# Altium integrated library NSC MiscPower.IntLib: 742 symbols (part 17 of 19)
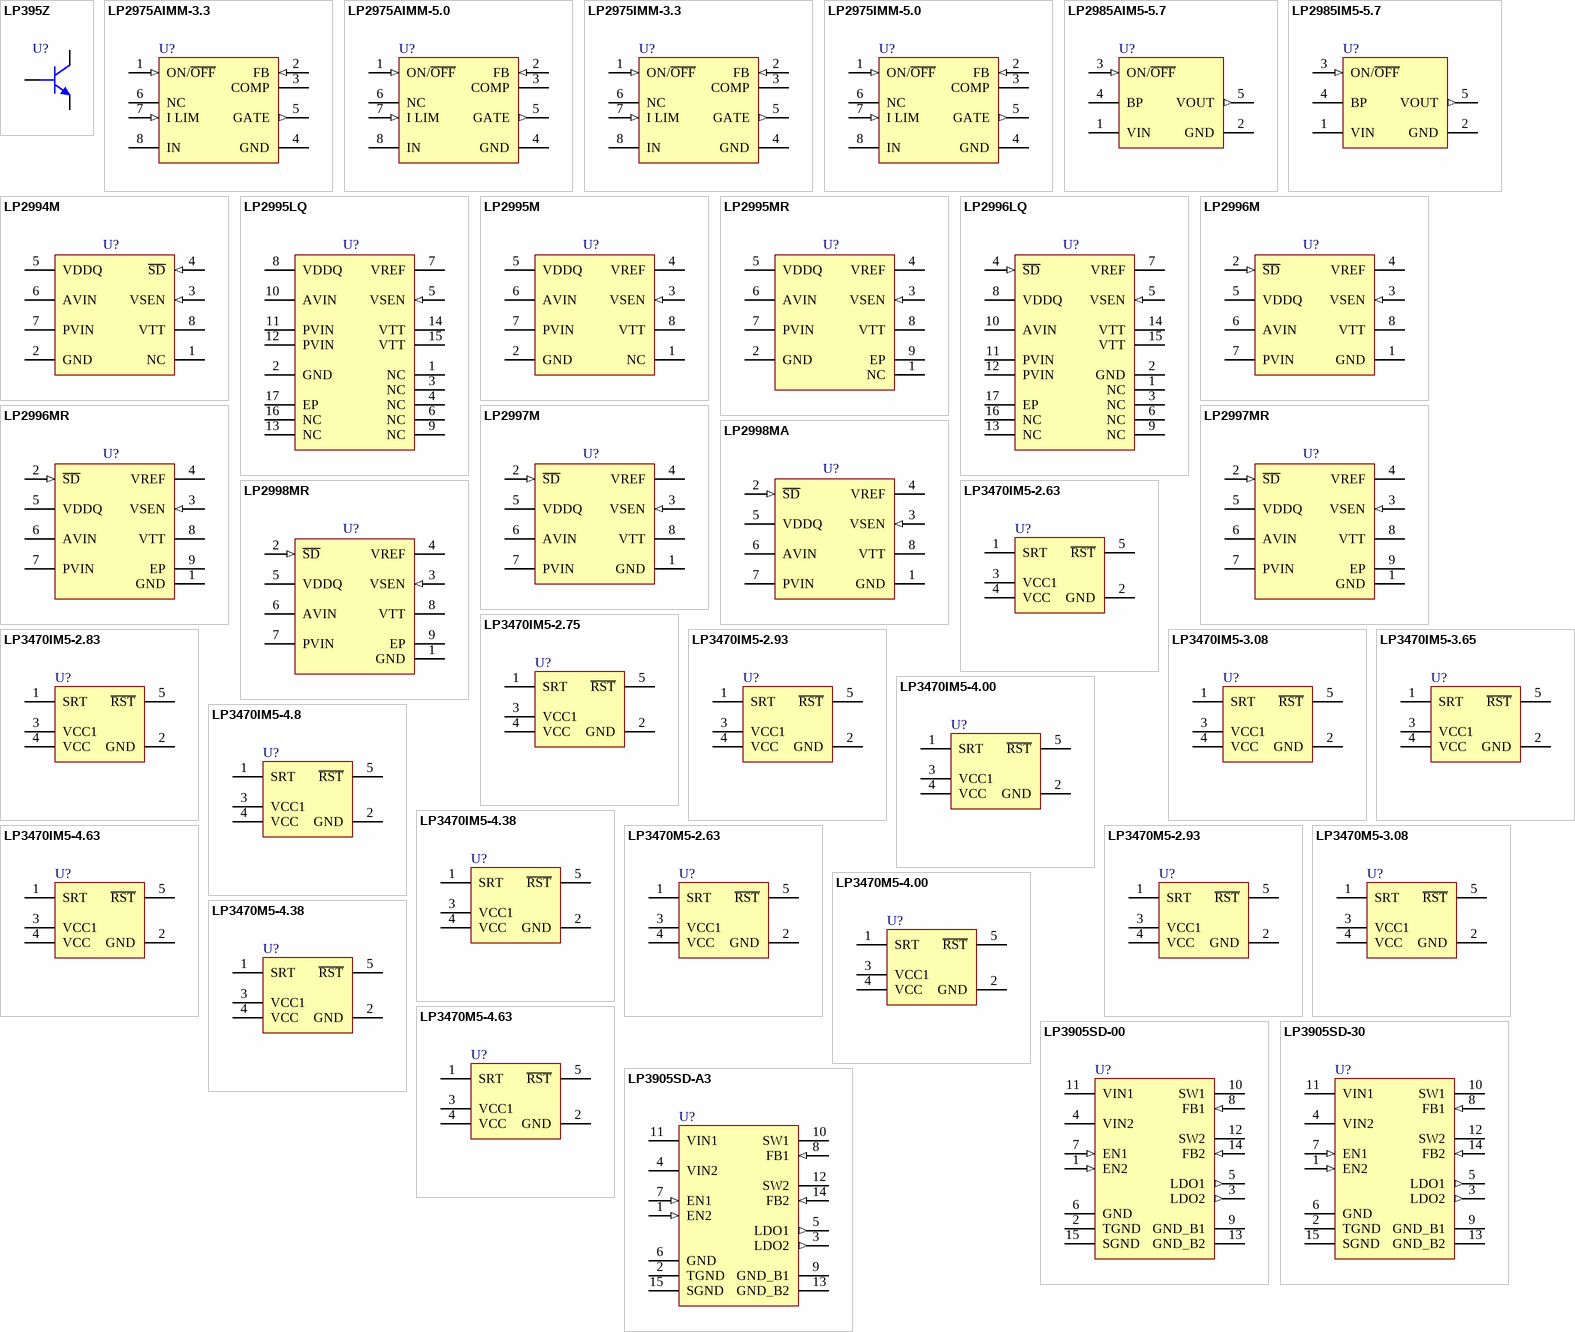
[diagram p41: symbols LP395Z to LP3905SD-A3]

## LP2996MR
designator U?
DDR Termination Regulator; PartNumber: LP2996MR; Manufacturer: National Semiconductor; CompType: MiscPower; PackageTopMarking: NSXYTT*LP2996; PowerWise: N; Published: 4-Dec-2008; DatasheetVersion: Jun-2006; PackageVersion: revD, Dec-2007; PackageReference: MRA08A; Publisher: Altium Limited; PackageDescription: Molded, PSOP .193 x .154 x .058in, 8 Lead, .050in Pitch; RoHS: O; PinCount: 8; DigiKeyPartNumber: LP2996MR-ND; Code_JEDEC: MS-012-AA; ComponentLink1Description: LP2996 Datasheet; ComponentLink1URL: http://www.national.com/ds/LP/LP2996.pdf; ComponentLink2Description: LP2996 Web Page; ComponentLink2URL: http://www.national.com/pf/LP/LP2996.html; ComponentLink3Description: MRA08A Package Page; ComponentLink3URL: http://www.national.com/packaging/folders/mra08a.html
footprint MRA08A_N (SOIC, 8-Leads, Body 4.9x3.9mm, Pitch 1.27mm, Exposed Pad, IPC Medium Density)
footprint MRA08A_L (SOIC, 8-Leads, Body 4.9x3.9mm, Pitch 1.27mm, Exposed Pad, IPC High Density)
footprint MRA08A_M (SOIC, 8-Leads, Body 4.9x3.9mm, Pitch 1.27mm, Exposed Pad, IPC Low Density)
pins: 1 GND (power), 2 ~{SD} (in), 3 VSEN (in), 4 VREF, 5 VDDQ (power), 6 AVIN (power), 7 PVIN (power), 8 VTT (power), 9 EP (power)

## LP2997M
designator U?
DDR-II Termination Regulator; PartNumber: LP2997M; Manufacturer: National Semiconductor; CompType: MiscPower; PackageTopMarking: NSZXTT*L2997*M; PowerWise: N; Published: 4-Dec-2008; DatasheetVersion: Jun-2006; PackageVersion: revL, Sep-2006; PackageReference: M08A; Publisher: Altium Limited; PackageDescription: SOIC Narrow, 4.9 x 3.9 x 1.45mm, 8 Lead, 1.27mm Pitch; RoHS: Y; PinCount: 8; DigiKeyPartNumber: LP2997M-ND; Code_JEDEC: MS-012-AA; Code_IPC: SOIC127P600-8; ComponentLink1Description: LP2997 Datasheet; ComponentLink1URL: http://www.national.com/ds/LP/LP2997.pdf; ComponentLink2Description: LP2997 Web Page; ComponentLink2URL: http://www.national.com/pf/LP/LP2997.html; ComponentLink3Description: M08A Package Page; ComponentLink3URL: http://www.national.com/packaging/folders/m08a.html
footprint M08A_N (SOIC, 8-Leads, Body 4.9x3.9mm, Pitch 1.27mm, IPC Medium Density)
footprint M08A_L (SOIC, 8-Leads, Body 4.9x3.9mm, Pitch 1.27mm, IPC High Density)
footprint M08A_M (SOIC, 8-Leads, Body 4.9x3.9mm, Pitch 1.27mm, IPC Low Density)
pins: 1 GND (power), 2 ~{SD} (in), 3 VSEN (in), 4 VREF, 5 VDDQ (power), 6 AVIN (power), 7 PVIN (power), 8 VTT (power)

## LP2997MR
designator U?
DDR-II Termination Regulator; PartNumber: LP2997MR; Manufacturer: National Semiconductor; CompType: MiscPower; PackageTopMarking: NSXYTT*L2997*MR; PowerWise: N; Published: 4-Dec-2008; DatasheetVersion: Jun-2006; PackageVersion: revD, Dec-2007; PackageReference: MRA08A; Publisher: Altium Limited; PackageDescription: Molded, PSOP .193 x .154 x .058in, 8 Lead, .050in Pitch; RoHS: Y; PinCount: 8; DigiKeyPartNumber: LP2997MR-ND; Code_JEDEC: MS-012-AA; ComponentLink1Description: LP2997 Datasheet; ComponentLink1URL: http://www.national.com/ds/LP/LP2997.pdf; ComponentLink2Description: LP2997 Web Page; ComponentLink2URL: http://www.national.com/pf/LP/LP2997.html; ComponentLink3Description: MRA08A Package Page; ComponentLink3URL: http://www.national.com/packaging/folders/mra08a.html
footprint MRA08A_N (SOIC, 8-Leads, Body 4.9x3.9mm, Pitch 1.27mm, Exposed Pad, IPC Medium Density)
footprint MRA08A_L (SOIC, 8-Leads, Body 4.9x3.9mm, Pitch 1.27mm, Exposed Pad, IPC High Density)
footprint MRA08A_M (SOIC, 8-Leads, Body 4.9x3.9mm, Pitch 1.27mm, Exposed Pad, IPC Low Density)
pins: 1 GND (power), 2 ~{SD} (in), 3 VSEN (in), 4 VREF, 5 VDDQ (power), 6 AVIN (power), 7 PVIN (power), 8 VTT (power), 9 EP (power)

## LP2998MA
designator U?
DDR-II and DDR-I Termination Regulator; PartNumber: LP2998MA; Manufacturer: National Semiconductor; CompType: MiscPower; PackageTopMarking: NSZXTT*LP2998*MA; PowerWise: N; Published: 4-Dec-2008; DatasheetVersion: Apr-2008; PackageVersion: revL, Sep-2006; PackageReference: M08A; Publisher: Altium Limited; PackageDescription: SOIC Narrow, 4.9 x 3.9 x 1.45mm, 8 Lead, 1.27mm Pitch; RoHS: Y; PinCount: 8; DigiKeyPartNumber: LP2998MA-ND; Code_JEDEC: MS-012-AA; Code_IPC: SOIC127P600-8; ComponentLink1Description: LP2998 Datasheet; ComponentLink1URL: http://www.national.com/ds/LP/LP2998.pdf; ComponentLink2Description: LP2998 Web Page; ComponentLink2URL: http://www.national.com/pf/LP/LP2998.html; ComponentLink3Description: M08A Package Page; ComponentLink3URL: http://www.national.com/packaging/folders/m08a.html
footprint M08A_N (SOIC, 8-Leads, Body 4.9x3.9mm, Pitch 1.27mm, IPC Medium Density)
footprint M08A_L (SOIC, 8-Leads, Body 4.9x3.9mm, Pitch 1.27mm, IPC High Density)
footprint M08A_M (SOIC, 8-Leads, Body 4.9x3.9mm, Pitch 1.27mm, IPC Low Density)
pins: 1 GND (power), 2 ~{SD} (in), 3 VSEN (in), 4 VREF, 5 VDDQ (power), 6 AVIN (power), 7 PVIN (power), 8 VTT (power)

## LP2998MR
designator U?
DDR-II and DDR-I Termination Regulator; PartNumber: LP2998MR; Manufacturer: National Semiconductor; CompType: MiscPower; PackageTopMarking: NSXYTT*LP2998*MR; PowerWise: N; Published: 4-Dec-2008; DatasheetVersion: Apr-2008; PackageVersion: revD, Dec-2007; PackageReference: MRA08A; Publisher: Altium Limited; PackageDescription: Molded, PSOP .193 x .154 x .058in, 8 Lead, .050in Pitch; RoHS: Y; PinCount: 8; DigiKeyPartNumber: LP2998MR-ND; Code_JEDEC: MS-012-AA; ComponentLink1Description: LP2998 Datasheet; ComponentLink1URL: http://www.national.com/ds/LP/LP2998.pdf; ComponentLink2Description: LP2998 Web Page; ComponentLink2URL: http://www.national.com/pf/LP/LP2998.html; ComponentLink3Description: MRA08A Package Page; ComponentLink3URL: http://www.national.com/packaging/folders/mra08a.html
footprint MRA08A_N (SOIC, 8-Leads, Body 4.9x3.9mm, Pitch 1.27mm, Exposed Pad, IPC Medium Density)
footprint MRA08A_L (SOIC, 8-Leads, Body 4.9x3.9mm, Pitch 1.27mm, Exposed Pad, IPC High Density)
footprint MRA08A_M (SOIC, 8-Leads, Body 4.9x3.9mm, Pitch 1.27mm, Exposed Pad, IPC Low Density)
pins: 1 GND (power), 2 ~{SD} (in), 3 VSEN (in), 4 VREF, 5 VDDQ (power), 6 AVIN (power), 7 PVIN (power), 8 VTT (power), 9 EP (power)

## LP3470IM5-2.63
designator U?
Tiny Power On Reset Circuit; PartNumber: LP3470IM5-2.63; Manufacturer: National Semiconductor; CompType: MiscPower; PackageTopMarking: D25C*XTT; PowerWise: N; Published: 4-Dec-2008; DatasheetVersion: Sep-2000; PackageVersion: revD, Aug-2008; PackageReference: MF05A; Publisher: Altium Limited; PackageDescription: Molded SOT-23, .115 x .063 x .040 in Body, 5 Lead, .0375 in Pitch; RoHS: Y; PinCount: 5; DigiKeyPartNumber: LP3470IM5-2.63CT-ND; ComponentLink1Description: LP3470 Datasheet; ComponentLink1URL: http://www.national.com/ds/LP/LP3470.pdf; ComponentLink2Description: LP3470 Web Page; ComponentLink2URL: http://www.national.com/mpf/LP/LP3470.html; ComponentLink3Description: MF05A Package Page; ComponentLink3URL: http://www.national.com/packaging/folders/mf05a.html
footprint MF05A_N (SOT23, 5-Leads, Body 2.9x1.6mm, Pitch 0.95mm, Lead Span 2.8mm, IPC Medium Density)
footprint MF05A_L (SOT23, 5-Leads, Body 2.9x1.6mm, Pitch 0.95mm, Lead Span 2.8mm, IPC High Density)
footprint MF05A_M (SOT23, 5-Leads, Body 2.9x1.6mm, Pitch 0.95mm, Lead Span 2.8mm, IPC Low Density)
pins: 1 SRT, 2 GND (power), 3 VCC1 (power), 4 VCC (power), 5 ~{RST} (oc)

## LP3470IM5-2.75
designator U?
Tiny Power On Reset Circuit; PartNumber: LP3470IM5-2.75; Manufacturer: National Semiconductor; CompType: MiscPower; PackageTopMarking: D38C*XTT; PowerWise: N; Published: 4-Dec-2008; DatasheetVersion: Sep-2000; PackageVersion: revD, Aug-2008; PackageReference: MF05A; Publisher: Altium Limited; PackageDescription: Molded SOT-23, .115 x .063 x .040 in Body, 5 Lead, .0375 in Pitch; RoHS: Y; PinCount: 5; DigiKeyPartNumber: LP3470IM5-2.75-ND; ComponentLink1Description: LP3470 Datasheet; ComponentLink1URL: http://www.national.com/ds/LP/LP3470.pdf; ComponentLink2Description: LP3470 Web Page; ComponentLink2URL: http://www.national.com/mpf/LP/LP3470.html; ComponentLink3Description: MF05A Package Page; ComponentLink3URL: http://www.national.com/packaging/folders/mf05a.html
footprint MF05A_N (SOT23, 5-Leads, Body 2.9x1.6mm, Pitch 0.95mm, Lead Span 2.8mm, IPC Medium Density)
footprint MF05A_L (SOT23, 5-Leads, Body 2.9x1.6mm, Pitch 0.95mm, Lead Span 2.8mm, IPC High Density)
footprint MF05A_M (SOT23, 5-Leads, Body 2.9x1.6mm, Pitch 0.95mm, Lead Span 2.8mm, IPC Low Density)
pins: 1 SRT, 2 GND (power), 3 VCC1 (power), 4 VCC (power), 5 ~{RST} (oc)

## LP3470IM5-2.83
designator U?
Tiny Power On Reset Circuit; PartNumber: LP3470IM5-2.83; Manufacturer: National Semiconductor; CompType: MiscPower; PackageTopMarking: D39C*XTT; PowerWise: N; Published: 4-Dec-2008; DatasheetVersion: Sep-2000; PackageVersion: revD, Aug-2008; PackageReference: MF05A; Publisher: Altium Limited; PackageDescription: Molded SOT-23, .115 x .063 x .040 in Body, 5 Lead, .0375 in Pitch; RoHS: Y; PinCount: 5; DigiKeyPartNumber: LP3470IM5-2.83-ND; ComponentLink1Description: LP3470 Datasheet; ComponentLink1URL: http://www.national.com/ds/LP/LP3470.pdf; ComponentLink2Description: LP3470 Web Page; ComponentLink2URL: http://www.national.com/mpf/LP/LP3470.html; ComponentLink3Description: MF05A Package Page; ComponentLink3URL: http://www.national.com/packaging/folders/mf05a.html
footprint MF05A_N (SOT23, 5-Leads, Body 2.9x1.6mm, Pitch 0.95mm, Lead Span 2.8mm, IPC Medium Density)
footprint MF05A_L (SOT23, 5-Leads, Body 2.9x1.6mm, Pitch 0.95mm, Lead Span 2.8mm, IPC High Density)
footprint MF05A_M (SOT23, 5-Leads, Body 2.9x1.6mm, Pitch 0.95mm, Lead Span 2.8mm, IPC Low Density)
pins: 1 SRT, 2 GND (power), 3 VCC1 (power), 4 VCC (power), 5 ~{RST} (oc)

## LP3470IM5-2.93
designator U?
Tiny Power On Reset Circuit; PartNumber: LP3470IM5-2.93; Manufacturer: National Semiconductor; CompType: MiscPower; PackageTopMarking: D26C*XTT; PowerWise: N; Published: 4-Dec-2008; DatasheetVersion: Sep-2000; PackageVersion: revD, Aug-2008; PackageReference: MF05A; Publisher: Altium Limited; PackageDescription: Molded SOT-23, .115 x .063 x .040 in Body, 5 Lead, .0375 in Pitch; RoHS: Y; PinCount: 5; DigiKeyPartNumber: LP3470IM5-2.93CT-ND; ComponentLink1Description: LP3470 Datasheet; ComponentLink1URL: http://www.national.com/ds/LP/LP3470.pdf; ComponentLink2Description: LP3470 Web Page; ComponentLink2URL: http://www.national.com/mpf/LP/LP3470.html; ComponentLink3Description: MF05A Package Page; ComponentLink3URL: http://www.national.com/packaging/folders/mf05a.html
footprint MF05A_N (SOT23, 5-Leads, Body 2.9x1.6mm, Pitch 0.95mm, Lead Span 2.8mm, IPC Medium Density)
footprint MF05A_L (SOT23, 5-Leads, Body 2.9x1.6mm, Pitch 0.95mm, Lead Span 2.8mm, IPC High Density)
footprint MF05A_M (SOT23, 5-Leads, Body 2.9x1.6mm, Pitch 0.95mm, Lead Span 2.8mm, IPC Low Density)
pins: 1 SRT, 2 GND (power), 3 VCC1 (power), 4 VCC (power), 5 ~{RST} (oc)

## LP3470IM5-3.08
designator U?
Tiny Power On Reset Circuit; PartNumber: LP3470IM5-3.08; Manufacturer: National Semiconductor; CompType: MiscPower; PackageTopMarking: D28C*XTT; PowerWise: N; Published: 4-Dec-2008; DatasheetVersion: Sep-2000; PackageVersion: revD, Aug-2008; PackageReference: MF05A; Publisher: Altium Limited; PackageDescription: Molded SOT-23, .115 x .063 x .040 in Body, 5 Lead, .0375 in Pitch; RoHS: O; PinCount: 5; DigiKeyPartNumber: LP3470IM5-3.08CT-ND; ComponentLink1Description: LP3470 Datasheet; ComponentLink1URL: http://www.national.com/ds/LP/LP3470.pdf; ComponentLink2Description: LP3470 Web Page; ComponentLink2URL: http://www.national.com/mpf/LP/LP3470.html; ComponentLink3Description: MF05A Package Page; ComponentLink3URL: http://www.national.com/packaging/folders/mf05a.html
footprint MF05A_N (SOT23, 5-Leads, Body 2.9x1.6mm, Pitch 0.95mm, Lead Span 2.8mm, IPC Medium Density)
footprint MF05A_L (SOT23, 5-Leads, Body 2.9x1.6mm, Pitch 0.95mm, Lead Span 2.8mm, IPC High Density)
footprint MF05A_M (SOT23, 5-Leads, Body 2.9x1.6mm, Pitch 0.95mm, Lead Span 2.8mm, IPC Low Density)
pins: 1 SRT, 2 GND (power), 3 VCC1 (power), 4 VCC (power), 5 ~{RST} (oc)

## LP3470IM5-3.65
designator U?
Tiny Power On Reset Circuit; PartNumber: LP3470IM5-3.65; Manufacturer: National Semiconductor; CompType: MiscPower; PackageTopMarking: D37C*XTT; PowerWise: N; Published: 4-Dec-2008; DatasheetVersion: Sep-2000; PackageVersion: revD, Aug-2008; PackageReference: MF05A; Publisher: Altium Limited; PackageDescription: Molded SOT-23, .115 x .063 x .040 in Body, 5 Lead, .0375 in Pitch; RoHS: Y; PinCount: 5; DigiKeyPartNumber: LP3470IM5-3.65CT-ND; ComponentLink1Description: LP3470 Datasheet; ComponentLink1URL: http://www.national.com/ds/LP/LP3470.pdf; ComponentLink2Description: LP3470 Web Page; ComponentLink2URL: http://www.national.com/mpf/LP/LP3470.html; ComponentLink3Description: MF05A Package Page; ComponentLink3URL: http://www.national.com/packaging/folders/mf05a.html
footprint MF05A_N (SOT23, 5-Leads, Body 2.9x1.6mm, Pitch 0.95mm, Lead Span 2.8mm, IPC Medium Density)
footprint MF05A_L (SOT23, 5-Leads, Body 2.9x1.6mm, Pitch 0.95mm, Lead Span 2.8mm, IPC High Density)
footprint MF05A_M (SOT23, 5-Leads, Body 2.9x1.6mm, Pitch 0.95mm, Lead Span 2.8mm, IPC Low Density)
pins: 1 SRT, 2 GND (power), 3 VCC1 (power), 4 VCC (power), 5 ~{RST} (oc)

## LP3470IM5-4.00
designator U?
Tiny Power On Reset Circuit; PartNumber: LP3470IM5-4.00; Manufacturer: National Semiconductor; CompType: MiscPower; PackageTopMarking: D29C*XTT; PowerWise: N; Published: 4-Dec-2008; DatasheetVersion: Sep-2000; PackageVersion: revD, Aug-2008; PackageReference: MF05A; Publisher: Altium Limited; PackageDescription: Molded SOT-23, .115 x .063 x .040 in Body, 5 Lead, .0375 in Pitch; RoHS: Y; PinCount: 5; DigiKeyPartNumber: LP3470IM5-4.00CT-ND; ComponentLink1Description: LP3470 Datasheet; ComponentLink1URL: http://www.national.com/ds/LP/LP3470.pdf; ComponentLink2Description: LP3470 Web Page; ComponentLink2URL: http://www.national.com/mpf/LP/LP3470.html; ComponentLink3Description: MF05A Package Page; ComponentLink3URL: http://www.national.com/packaging/folders/mf05a.html
footprint MF05A_N (SOT23, 5-Leads, Body 2.9x1.6mm, Pitch 0.95mm, Lead Span 2.8mm, IPC Medium Density)
footprint MF05A_L (SOT23, 5-Leads, Body 2.9x1.6mm, Pitch 0.95mm, Lead Span 2.8mm, IPC High Density)
footprint MF05A_M (SOT23, 5-Leads, Body 2.9x1.6mm, Pitch 0.95mm, Lead Span 2.8mm, IPC Low Density)
pins: 1 SRT, 2 GND (power), 3 VCC1 (power), 4 VCC (power), 5 ~{RST} (oc)

## LP3470IM5-4.8
designator U?
Tiny Power On Reset Circuit; PartNumber: LP3470IM5-4.8; Manufacturer: National Semiconductor; CompType: MiscPower; PackageTopMarking: D15C*XTT; PowerWise: N; Published: 4-Dec-2008; DatasheetVersion: Sep-2000; PackageVersion: revD, Aug-2008; PackageReference: MF05A; Publisher: Altium Limited; PackageDescription: Molded SOT-23, .115 x .063 x .040 in Body, 5 Lead, .0375 in Pitch; RoHS: Y; PinCount: 5; DigiKeyPartNumber: LP3470IM5-4.8-ND; ComponentLink1Description: LP3470 Datasheet; ComponentLink1URL: http://www.national.com/ds/LP/LP3470.pdf; ComponentLink2Description: LP3470 Web Page; ComponentLink2URL: http://www.national.com/mpf/LP/LP3470.html; ComponentLink3Description: MF05A Package Page; ComponentLink3URL: http://www.national.com/packaging/folders/mf05a.html
footprint MF05A_N (SOT23, 5-Leads, Body 2.9x1.6mm, Pitch 0.95mm, Lead Span 2.8mm, IPC Medium Density)
footprint MF05A_L (SOT23, 5-Leads, Body 2.9x1.6mm, Pitch 0.95mm, Lead Span 2.8mm, IPC High Density)
footprint MF05A_M (SOT23, 5-Leads, Body 2.9x1.6mm, Pitch 0.95mm, Lead Span 2.8mm, IPC Low Density)
pins: 1 SRT, 2 GND (power), 3 VCC1 (power), 4 VCC (power), 5 ~{RST} (oc)

## LP3470IM5-4.38
designator U?
Tiny Power On Reset Circuit; PartNumber: LP3470IM5-4.38; Manufacturer: National Semiconductor; CompType: MiscPower; PackageTopMarking: D30C*XTT; PowerWise: N; Published: 4-Dec-2008; DatasheetVersion: Sep-2000; PackageVersion: revD, Aug-2008; PackageReference: MF05A; Publisher: Altium Limited; PackageDescription: Molded SOT-23, .115 x .063 x .040 in Body, 5 Lead, .0375 in Pitch; RoHS: O; PinCount: 5; DigiKeyPartNumber: LP3470IM5-4.38CT-ND; ComponentLink1Description: LP3470 Datasheet; ComponentLink1URL: http://www.national.com/ds/LP/LP3470.pdf; ComponentLink2Description: LP3470 Web Page; ComponentLink2URL: http://www.national.com/mpf/LP/LP3470.html; ComponentLink3Description: MF05A Package Page; ComponentLink3URL: http://www.national.com/packaging/folders/mf05a.html
footprint MF05A_N (SOT23, 5-Leads, Body 2.9x1.6mm, Pitch 0.95mm, Lead Span 2.8mm, IPC Medium Density)
footprint MF05A_L (SOT23, 5-Leads, Body 2.9x1.6mm, Pitch 0.95mm, Lead Span 2.8mm, IPC High Density)
footprint MF05A_M (SOT23, 5-Leads, Body 2.9x1.6mm, Pitch 0.95mm, Lead Span 2.8mm, IPC Low Density)
pins: 1 SRT, 2 GND (power), 3 VCC1 (power), 4 VCC (power), 5 ~{RST} (oc)

## LP3470IM5-4.63
designator U?
Tiny Power On Reset Circuit; PartNumber: LP3470IM5-4.63; Manufacturer: National Semiconductor; CompType: MiscPower; PackageTopMarking: D31C*XTT; PowerWise: N; Published: 4-Dec-2008; DatasheetVersion: Sep-2000; PackageVersion: revD, Aug-2008; PackageReference: MF05A; Publisher: Altium Limited; PackageDescription: Molded SOT-23, .115 x .063 x .040 in Body, 5 Lead, .0375 in Pitch; RoHS: O; PinCount: 5; DigiKeyPartNumber: LP3470IM5-4.63CT-ND; ComponentLink1Description: LP3470 Datasheet; ComponentLink1URL: http://www.national.com/ds/LP/LP3470.pdf; ComponentLink2Description: LP3470 Web Page; ComponentLink2URL: http://www.national.com/mpf/LP/LP3470.html; ComponentLink3Description: MF05A Package Page; ComponentLink3URL: http://www.national.com/packaging/folders/mf05a.html
footprint MF05A_N (SOT23, 5-Leads, Body 2.9x1.6mm, Pitch 0.95mm, Lead Span 2.8mm, IPC Medium Density)
footprint MF05A_L (SOT23, 5-Leads, Body 2.9x1.6mm, Pitch 0.95mm, Lead Span 2.8mm, IPC High Density)
footprint MF05A_M (SOT23, 5-Leads, Body 2.9x1.6mm, Pitch 0.95mm, Lead Span 2.8mm, IPC Low Density)
pins: 1 SRT, 2 GND (power), 3 VCC1 (power), 4 VCC (power), 5 ~{RST} (oc)

## LP3470M5-2.63
designator U?
Tiny Power On Reset Circuit; PartNumber: LP3470M5-2.63; Manufacturer: National Semiconductor; CompType: MiscPower; PackageTopMarking: D25B*XTT; PowerWise: N; Published: 4-Dec-2008; DatasheetVersion: Sep-2000; PackageVersion: revD, Aug-2008; PackageReference: MF05A; Publisher: Altium Limited; PackageDescription: Molded SOT-23, .115 x .063 x .040 in Body, 5 Lead, .0375 in Pitch; RoHS: O; PinCount: 5; DigiKeyPartNumber: LP3470M5-2.63CT-ND; ComponentLink1Description: LP3470 Datasheet; ComponentLink1URL: http://www.national.com/ds/LP/LP3470.pdf; ComponentLink2Description: LP3470 Web Page; ComponentLink2URL: http://www.national.com/mpf/LP/LP3470.html; ComponentLink3Description: MF05A Package Page; ComponentLink3URL: http://www.national.com/packaging/folders/mf05a.html
footprint MF05A_N (SOT23, 5-Leads, Body 2.9x1.6mm, Pitch 0.95mm, Lead Span 2.8mm, IPC Medium Density)
footprint MF05A_L (SOT23, 5-Leads, Body 2.9x1.6mm, Pitch 0.95mm, Lead Span 2.8mm, IPC High Density)
footprint MF05A_M (SOT23, 5-Leads, Body 2.9x1.6mm, Pitch 0.95mm, Lead Span 2.8mm, IPC Low Density)
pins: 1 SRT, 2 GND (power), 3 VCC1 (power), 4 VCC (power), 5 ~{RST} (oc)

## LP3470M5-2.93
designator U?
Tiny Power On Reset Circuit; PartNumber: LP3470M5-2.93; Manufacturer: National Semiconductor; CompType: MiscPower; PackageTopMarking: D26B*XTT; PowerWise: N; Published: 4-Dec-2008; DatasheetVersion: Sep-2000; PackageVersion: revD, Aug-2008; PackageReference: MF05A; Publisher: Altium Limited; PackageDescription: Molded SOT-23, .115 x .063 x .040 in Body, 5 Lead, .0375 in Pitch; RoHS: O; PinCount: 5; DigiKeyPartNumber: LP3470M5-2.93CT-ND; ComponentLink1Description: LP3470 Datasheet; ComponentLink1URL: http://www.national.com/ds/LP/LP3470.pdf; ComponentLink2Description: LP3470 Web Page; ComponentLink2URL: http://www.national.com/mpf/LP/LP3470.html; ComponentLink3Description: MF05A Package Page; ComponentLink3URL: http://www.national.com/packaging/folders/mf05a.html
footprint MF05A_N (SOT23, 5-Leads, Body 2.9x1.6mm, Pitch 0.95mm, Lead Span 2.8mm, IPC Medium Density)
footprint MF05A_L (SOT23, 5-Leads, Body 2.9x1.6mm, Pitch 0.95mm, Lead Span 2.8mm, IPC High Density)
footprint MF05A_M (SOT23, 5-Leads, Body 2.9x1.6mm, Pitch 0.95mm, Lead Span 2.8mm, IPC Low Density)
pins: 1 SRT, 2 GND (power), 3 VCC1 (power), 4 VCC (power), 5 ~{RST} (oc)

## LP3470M5-3.08
designator U?
Tiny Power On Reset Circuit; PartNumber: LP3470M5-3.08; Manufacturer: National Semiconductor; CompType: MiscPower; PackageTopMarking: D28B*XTT; PowerWise: N; Published: 4-Dec-2008; DatasheetVersion: Sep-2000; PackageVersion: revD, Aug-2008; PackageReference: MF05A; Publisher: Altium Limited; PackageDescription: Molded SOT-23, .115 x .063 x .040 in Body, 5 Lead, .0375 in Pitch; RoHS: O; PinCount: 5; DigiKeyPartNumber: LP3470M5-3.08CT-ND; ComponentLink1Description: LP3470 Datasheet; ComponentLink1URL: http://www.national.com/ds/LP/LP3470.pdf; ComponentLink2Description: LP3470 Web Page; ComponentLink2URL: http://www.national.com/mpf/LP/LP3470.html; ComponentLink3Description: MF05A Package Page; ComponentLink3URL: http://www.national.com/packaging/folders/mf05a.html
footprint MF05A_N (SOT23, 5-Leads, Body 2.9x1.6mm, Pitch 0.95mm, Lead Span 2.8mm, IPC Medium Density)
footprint MF05A_L (SOT23, 5-Leads, Body 2.9x1.6mm, Pitch 0.95mm, Lead Span 2.8mm, IPC High Density)
footprint MF05A_M (SOT23, 5-Leads, Body 2.9x1.6mm, Pitch 0.95mm, Lead Span 2.8mm, IPC Low Density)
pins: 1 SRT, 2 GND (power), 3 VCC1 (power), 4 VCC (power), 5 ~{RST} (oc)

## LP3470M5-4.00
designator U?
Tiny Power On Reset Circuit; PartNumber: LP3470M5-4.00; Manufacturer: National Semiconductor; CompType: MiscPower; PackageTopMarking: D29B*XTT; PowerWise: N; Published: 29-May-2009; DatasheetVersion: Sep-2000; PackageVersion: revD, Aug-2008; PackageReference: MF05A; Publisher: Altium Limited; PackageDescription: Molded SOT-23, .115 x .063 x .040 in Body, 5 Lead, .0375 in Pitch; RoHS: Y; PinCount: 5; DigiKeyPartNumber: LP3470M5-4.00CT-ND; ComponentLink1Description: LP3470 Datasheet; ComponentLink1URL: http://www.national.com/ds/LP/LP3470.pdf; ComponentLink2Description: LP3470 Web Page; ComponentLink2URL: http://www.national.com/mpf/LP/LP3470.html; ComponentLink3Description: MF05A Package Page; ComponentLink3URL: http://www.national.com/packaging/folders/mf05a.html
footprint MF05A_N (SOT23, 5-Leads, Body 2.9x1.6mm, Pitch 0.95mm, Lead Span 2.8mm, IPC Medium Density)
footprint MF05A_L (SOT23, 5-Leads, Body 2.9x1.6mm, Pitch 0.95mm, Lead Span 2.8mm, IPC High Density)
footprint MF05A_M (SOT23, 5-Leads, Body 2.9x1.6mm, Pitch 0.95mm, Lead Span 2.8mm, IPC Low Density)
pins: 1 SRT, 2 GND (power), 3 VCC1 (power), 4 VCC (power), 5 ~{RST} (oc)

## LP3470M5-4.38
designator U?
Tiny Power On Reset Circuit; PartNumber: LP3470M5-4.38; Manufacturer: National Semiconductor; CompType: MiscPower; PackageTopMarking: D30B*XTT; PowerWise: N; Published: 4-Dec-2008; DatasheetVersion: Sep-2000; PackageVersion: revD, Aug-2008; PackageReference: MF05A; Publisher: Altium Limited; PackageDescription: Molded SOT-23, .115 x .063 x .040 in Body, 5 Lead, .0375 in Pitch; RoHS: Y; PinCount: 5; DigiKeyPartNumber: LP3470M5-4.38CT-ND; ComponentLink1Description: LP3470 Datasheet; ComponentLink1URL: http://www.national.com/ds/LP/LP3470.pdf; ComponentLink2Description: LP3470 Web Page; ComponentLink2URL: http://www.national.com/mpf/LP/LP3470.html; ComponentLink3Description: MF05A Package Page; ComponentLink3URL: http://www.national.com/packaging/folders/mf05a.html
footprint MF05A_N (SOT23, 5-Leads, Body 2.9x1.6mm, Pitch 0.95mm, Lead Span 2.8mm, IPC Medium Density)
footprint MF05A_L (SOT23, 5-Leads, Body 2.9x1.6mm, Pitch 0.95mm, Lead Span 2.8mm, IPC High Density)
footprint MF05A_M (SOT23, 5-Leads, Body 2.9x1.6mm, Pitch 0.95mm, Lead Span 2.8mm, IPC Low Density)
pins: 1 SRT, 2 GND (power), 3 VCC1 (power), 4 VCC (power), 5 ~{RST} (oc)

## LP3470M5-4.63
designator U?
Tiny Power On Reset Circuit; PartNumber: LP3470M5-4.63; Manufacturer: National Semiconductor; CompType: MiscPower; PackageTopMarking: D31B*XTT; PowerWise: N; Published: 4-Dec-2008; DatasheetVersion: Sep-2000; PackageVersion: revD, Aug-2008; PackageReference: MF05A; Publisher: Altium Limited; PackageDescription: Molded SOT-23, .115 x .063 x .040 in Body, 5 Lead, .0375 in Pitch; RoHS: O; PinCount: 5; DigiKeyPartNumber: LP3470M5-4.63CT-ND; ComponentLink1Description: LP3470 Datasheet; ComponentLink1URL: http://www.national.com/ds/LP/LP3470.pdf; ComponentLink2Description: LP3470 Web Page; ComponentLink2URL: http://www.national.com/mpf/LP/LP3470.html; ComponentLink3Description: MF05A Package Page; ComponentLink3URL: http://www.national.com/packaging/folders/mf05a.html
footprint MF05A_N (SOT23, 5-Leads, Body 2.9x1.6mm, Pitch 0.95mm, Lead Span 2.8mm, IPC Medium Density)
footprint MF05A_L (SOT23, 5-Leads, Body 2.9x1.6mm, Pitch 0.95mm, Lead Span 2.8mm, IPC High Density)
footprint MF05A_M (SOT23, 5-Leads, Body 2.9x1.6mm, Pitch 0.95mm, Lead Span 2.8mm, IPC Low Density)
pins: 1 SRT, 2 GND (power), 3 VCC1 (power), 4 VCC (power), 5 ~{RST} (oc)

## LP3905SD-00
designator U?
Power Management Unit For Low Power Handheld Applications; PartNumber: LP3905SD-00; Manufacturer: National Semiconductor; CompType: MiscPower; PackageTopMarking: NS*UZXYTT*3905-00; PowerWise: N; Published: 4-Dec-2008; DatasheetVersion: Aug-2006; PackageVersion: revA, Jul-2004; PackageReference: SDA14B; Publisher: Altium Limited; PackageDescription: LLP, Plastic, Dual, 4 x 4 x 0.8mm Body, 14 Lead, 0.5mm Pitch, No Pullback; RoHS: Y; PinCount: 14; DigiKeyPartNumber: LP3905SD-00CT-ND; ComponentLink1Description: LP3905 Datasheet; ComponentLink1URL: http://www.national.com/ds/LP/LP3905.pdf; ComponentLink2Description: LP3905 Web Page; ComponentLink2URL: http://www.national.com/pf/LP/LP3905.html; ComponentLink3Description: SDA14B Package Page; ComponentLink3URL: http://www.national.com/packaging/folders/sda14b.html
footprint SDA14B (SON, 14-Leads, Body 4x4mm, Pitch 0.5mm, NSC Recommended)
pins: 1 EN2 (in), 2 TGND (power), 3 LDO2 (out), 4 VIN2 (power), 5 LDO1 (out), 6 GND (power), 7 EN1 (in), 8 FB1 (in), 9 GND_B1 (power), 10 SW1 (power), 11 VIN1 (power), 12 SW2 (power), 13 GND_B2 (power), 14 FB2 (in), 15 SGND (power)

## LP3905SD-30
designator U?
Power Management Unit For Low Power Handheld Applications; PartNumber: LP3905SD-30; Manufacturer: National Semiconductor; CompType: MiscPower; PackageTopMarking: NS*UZXYTT*3905-30; PowerWise: N; Published: 4-Dec-2008; DatasheetVersion: Aug-2006; PackageVersion: revA, Jul-2004; PackageReference: SDA14B; Publisher: Altium Limited; PackageDescription: LLP, Plastic, Dual, 4 x 4 x 0.8mm Body, 14 Lead, 0.5mm Pitch, No Pullback; RoHS: Y; PinCount: 14; DigiKeyPartNumber: LP3905SD-30EV-ND; ComponentLink1Description: LP3905 Datasheet; ComponentLink1URL: http://www.national.com/ds/LP/LP3905.pdf; ComponentLink2Description: LP3905 Web Page; ComponentLink2URL: http://www.national.com/pf/LP/LP3905.html; ComponentLink3Description: SDA14B Package Page; ComponentLink3URL: http://www.national.com/packaging/folders/sda14b.html
footprint SDA14B (SON, 14-Leads, Body 4x4mm, Pitch 0.5mm, NSC Recommended)
pins: 1 EN2 (in), 2 TGND (power), 3 LDO2 (out), 4 VIN2 (power), 5 LDO1 (out), 6 GND (power), 7 EN1 (in), 8 FB1 (in), 9 GND_B1 (power), 10 SW1 (power), 11 VIN1 (power), 12 SW2 (power), 13 GND_B2 (power), 14 FB2 (in), 15 SGND (power)

## LP3905SD-A3
designator U?
Power Management Unit For Low Power Handheld Applications; PartNumber: LP3905SD-A3; Manufacturer: National Semiconductor; CompType: MiscPower; PackageTopMarking: NS*UZXYTT*3905-A3; PowerWise: N; Published: 4-Dec-2008; DatasheetVersion: Aug-2006; PackageVersion: revA, Jul-2004; PackageReference: SDA14B; Publisher: Altium Limited; PackageDescription: LLP, Plastic, Dual, 4 x 4 x 0.8mm Body, 14 Lead, 0.5mm Pitch, No Pullback; RoHS: O; PinCount: 14; DigiKeyPartNumber: LP3905SD-A3EV-ND; ComponentLink1Description: LP3905 Datasheet; ComponentLink1URL: http://www.national.com/ds/LP/LP3905.pdf; ComponentLink2Description: LP3905 Web Page; ComponentLink2URL: http://www.national.com/pf/LP/LP3905.html; ComponentLink3Description: SDA14B Package Page; ComponentLink3URL: http://www.national.com/packaging/folders/sda14b.html
footprint SDA14B (SON, 14-Leads, Body 4x4mm, Pitch 0.5mm, NSC Recommended)
pins: 1 EN2 (in), 2 TGND (power), 3 LDO2 (out), 4 VIN2 (power), 5 LDO1 (out), 6 GND (power), 7 EN1 (in), 8 FB1 (in), 9 GND_B1 (power), 10 SW1 (power), 11 VIN1 (power), 12 SW2 (power), 13 GND_B2 (power), 14 FB2 (in), 15 SGND (power)

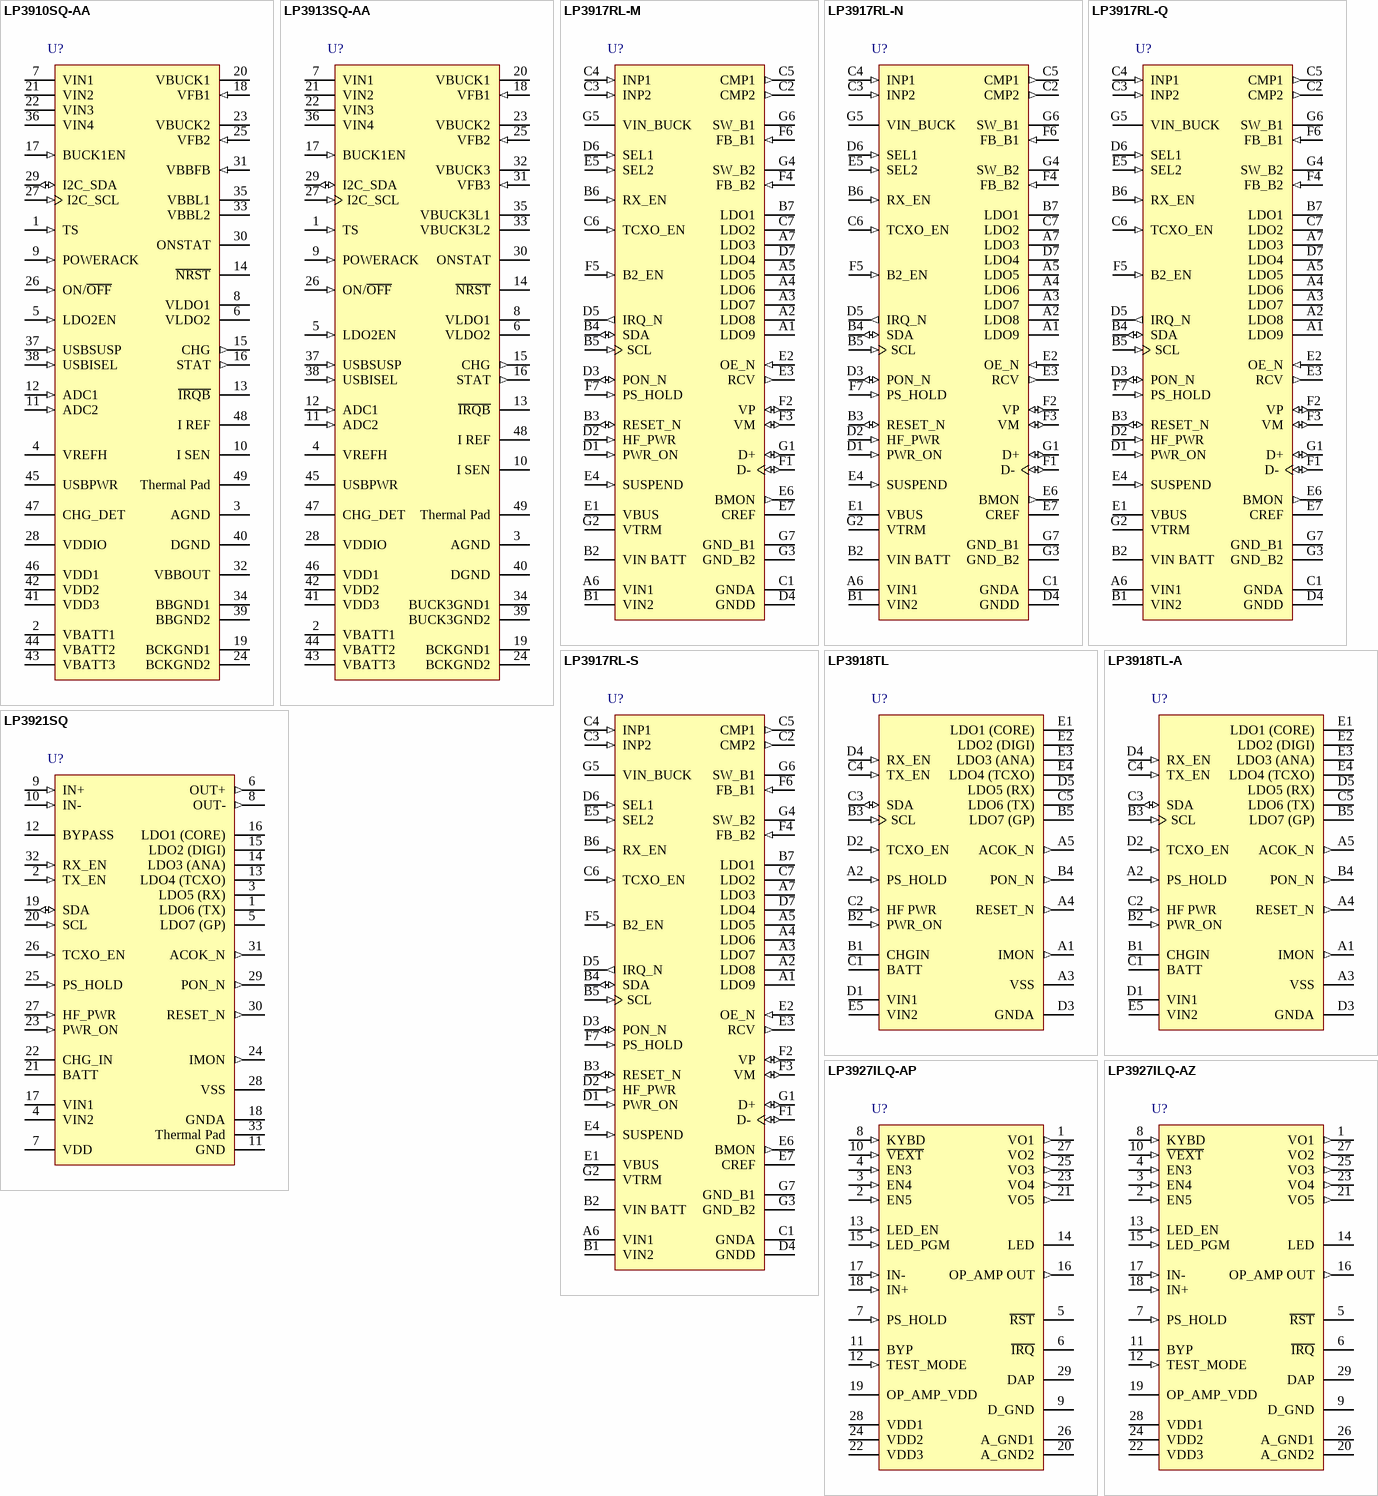
[diagram p20: symbols LP3910SQ-AA to LP3927ILQ-AZ]

## LP3910SQ-AA
designator U?
Power Management IC for Hard Drive Based Portable Media Players; PartNumber: LP3910SQ-AA; Manufacturer: National Semiconductor; CompType: MiscPower; PackageTopMarking: NS*UZXYTT*L3910-AA; PowerWise: Y; Published: 4-Dec-2008; DatasheetVersion: Sep-2008; PackageVersion: revA, May-2004; PackageReference: SQF48A; Publisher: Altium Limited; PackageDescription: LLP, Quad, 6 x 6 x 0.8mm Body, 48 Lead, 0.4mm Pitch, 4.6 x 4.6mm Exposed Pad; RoHS: Y; PinCount: 48; DigiKeyPartNumber: LP3910SQ-AA-ND; ComponentLink1Description: LP3910 Datasheet; ComponentLink1URL: http://www.national.com/ds/LP/LP3910.pdf; ComponentLink2Description: LP3910 Web Page; ComponentLink2URL: http://www.national.com/pf/LP/LP3910.html; ComponentLink3Description: SQF48A Package Page; ComponentLink3URL: http://www.national.com/packaging/folders/sqf48a.html
footprint SQF48A (QFN, 48-Leads, Body 6x6 mm, Pitch 0.4mm, NSC Recommended)
pins: 1 TS (in), 2 VBATT1 (power), 3 AGND (power), 4 VREFH, 5 LDO2EN (in), 6 VLDO2 (power), 7 VIN1 (power), 8 VLDO1 (power), 9 POWERACK (in), 10 I SEN, 11 ADC2 (in), 12 ADC1 (in), 13 ~{IRQB} (oc), 14 ~{NRST} (oc), 15 CHG (out), 16 STAT (out), 17 BUCK1EN (in), 18 VFB1 (in), 19 BCKGND1 (power), 20 VBUCK1 (power), 21 VIN2 (power), 22 VIN3 (power), 23 VBUCK2 (power), 24 BCKGND2 (power), 25 VFB2 (in), 26 ON/~{OFF} (in), 27 I2C_SCL (in), 28 VDDIO (power), 29 I2C_SDA (io), 30 ONSTAT (oc), 31 VBBFB (in), 32 VBBOUT (power), 33 VBBL2, 34 BBGND1 (power), 35 VBBL1, 36 VIN4 (power), 37 USBSUSP (in), 38 USBISEL (in), 39 BBGND2 (power), 40 DGND (power), 41 VDD3 (power), 42 VDD2 (power), 43 VBATT3 (power), 44 VBATT2 (power), 45 USBPWR (power), 46 VDD1 (power), 47 CHG_DET (power), 48 I REF, 49 Thermal Pad (power)

## LP3913SQ-AA
designator U?
Power Management IC for Flash Memory Based Portable Media Players; PartNumber: LP3913SQ-AA; Manufacturer: National Semiconductor; CompType: MiscPower; PackageTopMarking: NS*UZXYTT*L3913-AA; PowerWise: Y; Published: 4-Dec-2008; DatasheetVersion: Sep-2008; PackageVersion: revA, May-2004; PackageReference: SQF48A; Publisher: Altium Limited; PackageDescription: LLP, Quad, 6 x 6 x 0.8mm Body, 48 Lead, 0.4mm Pitch, 4.6 x 4.6mm Exposed Pad; RoHS: Y; PinCount: 48; DigiKeyPartNumber: LP3913SQ-AA-ND; ComponentLink1Description: LP3913 Datasheet; ComponentLink1URL: http://www.national.com/ds/LP/LP3913.pdf; ComponentLink2Description: LP3913 Web Page; ComponentLink2URL: http://www.national.com/pf/LP/LP3913.html; ComponentLink3Description: SQF48A Package Page; ComponentLink3URL: http://www.national.com/packaging/folders/sqf48a.html
footprint SQF48A (QFN, 48-Leads, Body 6x6 mm, Pitch 0.4mm, NSC Recommended)
pins: 1 TS (in), 2 VBATT1 (power), 3 AGND (power), 4 VREFH, 5 LDO2EN (in), 6 VLDO2 (power), 7 VIN1 (power), 8 VLDO1 (power), 9 POWERACK (in), 10 I SEN, 11 ADC2 (in), 12 ADC1 (in), 13 ~{IRQB} (oc), 14 ~{NRST} (oc), 15 CHG (out), 16 STAT (out), 17 BUCK1EN (in), 18 VFB1 (in), 19 BCKGND1 (power), 20 VBUCK1 (power), 21 VIN2 (power), 22 VIN3 (power), 23 VBUCK2 (power), 24 BCKGND2 (power), 25 VFB2 (in), 26 ON/~{OFF} (in), 27 I2C_SCL (in), 28 VDDIO (power), 29 I2C_SDA (io), 30 ONSTAT (oc), 31 VFB3 (in), 32 VBUCK3 (power), 33 VBUCK3L2, 34 BUCK3GND1 (power), 35 VBUCK3L1, 36 VIN4 (power), 37 USBSUSP (in), 38 USBISEL (in), 39 BUCK3GND2 (power), 40 DGND (power), 41 VDD3 (power), 42 VDD2 (power), 43 VBATT3 (power), 44 VBATT2 (power), 45 USBPWR (power), 46 VDD1 (power), 47 CHG_DET (power), 48 I REF, 49 Thermal Pad (power)

## LP3917RL-M
designator U?
CDMA Cellular Phone Power Management Unit; PartNumber: LP3917RL-M; Manufacturer: National Semiconductor; CompType: MiscPower; PackageTopMarking: XYTT*I V05; PowerWise: N; Published: 4-Dec-2008; DatasheetVersion: Dec-2006; PackageVersion: revB, Dec-2005; PackageReference: RLA49AAA; Publisher: Altium Limited; PackageDescription: Micro SMDxt, 49 Bump (Large), 0.5mm Pitch; RoHS: Y; PinCount: 49; DigiKeyPartNumber: LP3917RL-MCT-ND; ComponentLink1Description: LP3917 Datasheet; ComponentLink1URL: http://www.national.com/ds/LP/LP3917.pdf; ComponentLink2Description: LP3917 Web Page; ComponentLink2URL: http://www.national.com/pf/LP/LP3917.html; ComponentLink3Description: RLA49AAA Package Page; ComponentLink3URL: http://www.national.com/packaging/folders/rla49aaa.html
footprint RLA49AAA (Micro SMD, 49-Leads, Body 3.47x3.47mm, Pitch 0.5mm, NSC Recommended)
pins: A1 LDO9 (power), A2 LDO8 (power), A3 LDO7 (power), A4 LDO6 (power), A5 LDO5 (power), A6 VIN1 (power), A7 LDO3 (power), B1 VIN2 (power), B2 VIN BATT (power), B3 RESET_N (io), B4 SDA (io), B5 SCL (in), B6 RX_EN (in), B7 LDO1 (power), C1 GNDA (power), C2 CMP2 (out), C3 INP2 (in), C4 INP1 (in), C5 CMP1 (out), C6 TCXO_EN (in), C7 LDO2 (power), D1 PWR_ON (in), D2 HF_PWR (in), D3 PON_N (io), D4 GNDD (power), D5 IRQ_N (out), D6 SEL1 (in), D7 LDO4 (power), E1 VBUS (power), E2 OE_N (in), E3 RCV (out), E4 SUSPEND (in), E5 SEL2 (in), E6 BMON (out), E7 CREF, F1 D- (io), F2 VP (io), F3 VM (io), F4 FB_B2 (in), F5 B2_EN (in), F6 FB_B1 (in), F7 PS_HOLD (in), G1 D+ (io), G2 VTRM (power), G3 GND_B2 (power), G4 SW_B2 (power), G5 VIN_BUCK (power), G6 SW_B1 (power), G7 GND_B1 (power)

## LP3917RL-N
designator U?
CDMA Cellular Phone Power Management Unit; PartNumber: LP3917RL-N; Manufacturer: National Semiconductor; CompType: MiscPower; PackageTopMarking: XYTT*I V03; PowerWise: N; Published: 4-Dec-2008; DatasheetVersion: Dec-2006; PackageVersion: revB, Dec-2005; PackageReference: RLA49AAA; Publisher: Altium Limited; PackageDescription: Micro SMDxt, 49 Bump (Large), 0.5mm Pitch; RoHS: Y; PinCount: 49; DigiKeyPartNumber: LP3917RL-NCT-ND; ComponentLink1Description: LP3917 Datasheet; ComponentLink1URL: http://www.national.com/ds/LP/LP3917.pdf; ComponentLink2Description: LP3917 Web Page; ComponentLink2URL: http://www.national.com/pf/LP/LP3917.html; ComponentLink3Description: RLA49AAA Package Page; ComponentLink3URL: http://www.national.com/packaging/folders/rla49aaa.html
footprint RLA49AAA (Micro SMD, 49-Leads, Body 3.47x3.47mm, Pitch 0.5mm, NSC Recommended)
pins: A1 LDO9 (power), A2 LDO8 (power), A3 LDO7 (power), A4 LDO6 (power), A5 LDO5 (power), A6 VIN1 (power), A7 LDO3 (power), B1 VIN2 (power), B2 VIN BATT (power), B3 RESET_N (io), B4 SDA (io), B5 SCL (in), B6 RX_EN (in), B7 LDO1 (power), C1 GNDA (power), C2 CMP2 (out), C3 INP2 (in), C4 INP1 (in), C5 CMP1 (out), C6 TCXO_EN (in), C7 LDO2 (power), D1 PWR_ON (in), D2 HF_PWR (in), D3 PON_N (io), D4 GNDD (power), D5 IRQ_N (out), D6 SEL1 (in), D7 LDO4 (power), E1 VBUS (power), E2 OE_N (in), E3 RCV (out), E4 SUSPEND (in), E5 SEL2 (in), E6 BMON (out), E7 CREF, F1 D- (io), F2 VP (io), F3 VM (io), F4 FB_B2 (in), F5 B2_EN (in), F6 FB_B1 (in), F7 PS_HOLD (in), G1 D+ (io), G2 VTRM (power), G3 GND_B2 (power), G4 SW_B2 (power), G5 VIN_BUCK (power), G6 SW_B1 (power), G7 GND_B1 (power)

## LP3917RL-Q
designator U?
CDMA Cellular Phone Power Management Unit; PartNumber: LP3917RL-Q; Manufacturer: National Semiconductor; CompType: MiscPower; PackageTopMarking: XYTT*I V04; PowerWise: N; Published: 4-Dec-2008; DatasheetVersion: Dec-2006; PackageVersion: revB, Dec-2005; PackageReference: RLA49AAA; Publisher: Altium Limited; PackageDescription: Micro SMDxt, 49 Bump (Large), 0.5mm Pitch; RoHS: Y; PinCount: 49; DigiKeyPartNumber: LP3917RL-QCT-ND; ComponentLink1Description: LP3917 Datasheet; ComponentLink1URL: http://www.national.com/ds/LP/LP3917.pdf; ComponentLink2Description: LP3917 Web Page; ComponentLink2URL: http://www.national.com/pf/LP/LP3917.html; ComponentLink3Description: RLA49AAA Package Page; ComponentLink3URL: http://www.national.com/packaging/folders/rla49aaa.html
footprint RLA49AAA (Micro SMD, 49-Leads, Body 3.47x3.47mm, Pitch 0.5mm, NSC Recommended)
pins: A1 LDO9 (power), A2 LDO8 (power), A3 LDO7 (power), A4 LDO6 (power), A5 LDO5 (power), A6 VIN1 (power), A7 LDO3 (power), B1 VIN2 (power), B2 VIN BATT (power), B3 RESET_N (io), B4 SDA (io), B5 SCL (in), B6 RX_EN (in), B7 LDO1 (power), C1 GNDA (power), C2 CMP2 (out), C3 INP2 (in), C4 INP1 (in), C5 CMP1 (out), C6 TCXO_EN (in), C7 LDO2 (power), D1 PWR_ON (in), D2 HF_PWR (in), D3 PON_N (io), D4 GNDD (power), D5 IRQ_N (out), D6 SEL1 (in), D7 LDO4 (power), E1 VBUS (power), E2 OE_N (in), E3 RCV (out), E4 SUSPEND (in), E5 SEL2 (in), E6 BMON (out), E7 CREF, F1 D- (io), F2 VP (io), F3 VM (io), F4 FB_B2 (in), F5 B2_EN (in), F6 FB_B1 (in), F7 PS_HOLD (in), G1 D+ (io), G2 VTRM (power), G3 GND_B2 (power), G4 SW_B2 (power), G5 VIN_BUCK (power), G6 SW_B1 (power), G7 GND_B1 (power)

## LP3917RL-S
designator U?
CDMA Cellular Phone Power Management Unit; PartNumber: LP3917RL-S; Manufacturer: National Semiconductor; CompType: MiscPower; PackageTopMarking: XYTT*I V01; PowerWise: N; Published: 4-Dec-2008; DatasheetVersion: Dec-2006; PackageVersion: revB, Dec-2005; PackageReference: RLA49AAA; Publisher: Altium Limited; PackageDescription: Micro SMDxt, 49 Bump (Large), 0.5mm Pitch; RoHS: Y; PinCount: 49; DigiKeyPartNumber: LP3917RL-SCT-ND; ComponentLink1Description: LP3917 Datasheet; ComponentLink1URL: http://www.national.com/ds/LP/LP3917.pdf; ComponentLink2Description: LP3917 Web Page; ComponentLink2URL: http://www.national.com/pf/LP/LP3917.html; ComponentLink3Description: RLA49AAA Package Page; ComponentLink3URL: http://www.national.com/packaging/folders/rla49aaa.html
footprint RLA49AAA (Micro SMD, 49-Leads, Body 3.47x3.47mm, Pitch 0.5mm, NSC Recommended)
pins: A1 LDO9 (power), A2 LDO8 (power), A3 LDO7 (power), A4 LDO6 (power), A5 LDO5 (power), A6 VIN1 (power), A7 LDO3 (power), B1 VIN2 (power), B2 VIN BATT (power), B3 RESET_N (io), B4 SDA (io), B5 SCL (in), B6 RX_EN (in), B7 LDO1 (power), C1 GNDA (power), C2 CMP2 (out), C3 INP2 (in), C4 INP1 (in), C5 CMP1 (out), C6 TCXO_EN (in), C7 LDO2 (power), D1 PWR_ON (in), D2 HF_PWR (in), D3 PON_N (io), D4 GNDD (power), D5 IRQ_N (out), D6 SEL1 (in), D7 LDO4 (power), E1 VBUS (power), E2 OE_N (in), E3 RCV (out), E4 SUSPEND (in), E5 SEL2 (in), E6 BMON (out), E7 CREF, F1 D- (io), F2 VP (io), F3 VM (io), F4 FB_B2 (in), F5 B2_EN (in), F6 FB_B1 (in), F7 PS_HOLD (in), G1 D+ (io), G2 VTRM (power), G3 GND_B2 (power), G4 SW_B2 (power), G5 VIN_BUCK (power), G6 SW_B1 (power), G7 GND_B1 (power)

## LP3918TL
designator U?
Battery Charge Management and Regulator Unit; PartNumber: LP3918TL; Manufacturer: National Semiconductor; CompType: MiscPower; PackageTopMarking: XYTT*I 3918; PowerWise: N; Published: 4-Dec-2008; DatasheetVersion: Oct-2007; PackageVersion: revD, Dec-2003; PackageReference: TLA2511A; Publisher: Altium Limited; PackageDescription: Thin Micro SMD, 25 Bump (Large), 0.5mm Pitch; RoHS: Y; PinCount: 25; DigiKeyPartNumber: LP3918TLCT-ND; Code_JEDEC: MO-211-DH; ComponentLink1Description: LP3918 Datasheet; ComponentLink1URL: http://www.national.com/ds/LP/LP3918.pdf; ComponentLink2Description: LP3918 Web Page; ComponentLink2URL: http://www.national.com/pf/LP/LP3918.html; ComponentLink3Description: TLA2511A Package Page; ComponentLink3URL: http://www.national.com/packaging/folders/tla2511a.html
footprint TLA2511A (Micro SMD, 25-Leads, Body 2.47x2.47mm, Pitch 0.5mm, NSC Recommended)
pins: A1 IMON (out), A2 PS_HOLD (in), A3 VSS (power), A4 RESET_N (out), A5 ACOK_N (out), B1 CHGIN (power), B2 PWR_ON (in), B3 SCL (in), B4 PON_N (out), B5 LDO7 (GP) (power), C1 BATT (power), C2 HF PWR (in), C3 SDA (io), C4 TX_EN (in), C5 LDO6 (TX) (power), D1 VIN1 (power), D2 TCXO_EN (in), D3 GNDA (power), D4 RX_EN (in), D5 LDO5 (RX) (power), E1 LDO1 (CORE) (power), E2 LDO2 (DIGI) (power), E3 LDO3 (ANA) (power), E4 LDO4 (TCXO) (power), E5 VIN2 (power)

## LP3918TL-A
designator U?
Battery Charge Management and Regulator Unit; PartNumber: LP3918TL-A; Manufacturer: National Semiconductor; CompType: MiscPower; PackageTopMarking: XYTT*I V011; PowerWise: N; Published: 4-Dec-2008; DatasheetVersion: Oct-2007; PackageVersion: revD, Dec-2003; PackageReference: TLA2511A; Publisher: Altium Limited; PackageDescription: Thin Micro SMD, 25 Bump (Large), 0.5mm Pitch; RoHS: Y; PinCount: 25; Code_JEDEC: MO-211-DH; ComponentLink1Description: LP3918 Datasheet; ComponentLink1URL: http://www.national.com/ds/LP/LP3918.pdf; ComponentLink2Description: LP3918 Web Page; ComponentLink2URL: http://www.national.com/pf/LP/LP3918.html; ComponentLink3Description: TLA2511A Package Page; ComponentLink3URL: http://www.national.com/packaging/folders/tla2511a.html
footprint TLA2511A (Micro SMD, 25-Leads, Body 2.47x2.47mm, Pitch 0.5mm, NSC Recommended)
pins: A1 IMON (out), A2 PS_HOLD (in), A3 VSS (power), A4 RESET_N (out), A5 ACOK_N (out), B1 CHGIN (power), B2 PWR_ON (in), B3 SCL (in), B4 PON_N (out), B5 LDO7 (GP) (power), C1 BATT (power), C2 HF PWR (in), C3 SDA (io), C4 TX_EN (in), C5 LDO6 (TX) (power), D1 VIN1 (power), D2 TCXO_EN (in), D3 GNDA (power), D4 RX_EN (in), D5 LDO5 (RX) (power), E1 LDO1 (CORE) (power), E2 LDO2 (DIGI) (power), E3 LDO3 (ANA) (power), E4 LDO4 (TCXO) (power), E5 VIN2 (power)

## LP3921SQ
designator U?
Battery Charger Management and Regulator Unit with Integrated Boomer Audio Amplifier; PartNumber: LP3921SQ; Manufacturer: National Semiconductor; CompType: MiscPower; PackageTopMarking: NS*UZXYTT*L3921SQ; PowerWise: N; Published: 4-Dec-2008; DatasheetVersion: Aug-2008; PackageVersion: revA, Jul-2004; PackageReference: SQA32A; Publisher: Altium Limited; PackageDescription: LLP, Quad, 5 x 5 x 0.8mm, 32 Lead, 0.5mm Pitch, No Pullback 3.1 x 3.1 Exposed Pad; RoHS: Y; PinCount: 32; ComponentLink1Description: LP3921 Datasheet; ComponentLink1URL: http://www.national.com/ds/LP/LP3921.pdf; ComponentLink2Description: LP3921 Web Page; ComponentLink2URL: http://www.national.com/pf/LP/LP3921.html; ComponentLink3Description: SQA32A Package Page; ComponentLink3URL: http://www.national.com/packaging/folders/sqa32a.html
footprint SQA32A (QFN, 32-Leads, Body 5x5mm, Pitch 0.5mm, NSC Recommended)
pins: 1 LDO6 (TX) (power), 2 TX_EN (in), 3 LDO5 (RX) (power), 4 VIN2 (power), 5 LDO7 (GP) (power), 6 OUT+ (out), 7 VDD (power), 8 OUT- (out), 9 IN+ (in), 10 IN- (in), 11 GND (power), 12 BYPASS, 13 LDO4 (TCXO) (power), 14 LDO3 (ANA) (power), 15 LDO2 (DIGI) (power), 16 LDO1 (CORE) (power), 17 VIN1 (power), 18 GNDA (power), 19 SDA (io), 20 SCL (in), 21 BATT (power), 22 CHG_IN (power), 23 PWR_ON (in), 24 IMON (out), 25 PS_HOLD (in), 26 TCXO_EN (in), 27 HF_PWR (in), 28 VSS (power), 29 PON_N (out), 30 RESET_N (out), 31 ACOK_N (out), 32 RX_EN (in), 33 Thermal Pad (power)

## LP3927ILQ-AP
designator U?
Cellular/PCS System Power Management IC; PartNumber: LP3927ILQ-AP; Manufacturer: National Semiconductor; CompType: MiscPower; PackageTopMarking: NS*UZXYTT*3927AP; Published: 4-Dec-2008; DatasheetVersion: Dec-2005; PackageVersion: revB, Jul-2001; PackageReference: LQA28A; Publisher: Altium Limited; PackageDescription: LLP, Plastic, Quad, 5 x 5 x 0.75mm Body, 28 Lead, 0.5mm Pitch; RoHS: N; PinCount: 28; DigiKeyPartNumber: LP3927ILQ-AP-ND; Code_JEDEC: MO-220-WHHD-1; ComponentLink1Description: LP3927 Datasheet; ComponentLink1URL: http://www.national.com/ds/LP/LP3927.pdf; ComponentLink2Description: LP3927 Web Page; ComponentLink2URL: http://www.national.com/pf/LP/LP3927.html; ComponentLink3Description: LQA28A Package Page; ComponentLink3URL: http://www.national.com/packaging/folders/lqa28a.html
footprint LQA28A (PQFN, 28-Leads, Body 5x5mm, Pitch 0.5mm, NSC Recommended)
pins: 1 VO1 (out), 2 EN5 (in), 3 EN4 (in), 4 EN3 (in), 5 ~{RST} (oc), 6 ~{IRQ} (oc), 7 PS_HOLD (in), 8 KYBD (in), 9 D_GND (power), 10 ~{VEXT} (in), 11 BYP, 12 TEST_MODE (in), 13 LED_EN (in), 14 LED (oc), 15 LED_PGM (in), 16 OP_AMP OUT (out), 17 IN- (in), 18 IN+ (in), 19 OP_AMP_VDD (power), 20 A_GND2 (power), 21 VO5 (out), 22 VDD3 (power), 23 VO4 (out), 24 VDD2 (power), 25 VO3 (out), 26 A_GND1 (power), 27 VO2 (out), 28 VDD1 (power), 29 DAP (power)

## LP3927ILQ-AZ
designator U?
Cellular/PCS System Power Management IC; PartNumber: LP3927ILQ-AZ; Manufacturer: National Semiconductor; CompType: MiscPower; PackageTopMarking: NS*UZXYTT*3927-AZ; PowerWise: N; Published: 4-Dec-2008; DatasheetVersion: Dec-2005; PackageVersion: revB, Jul-2001; PackageReference: LQA28A; Publisher: Altium Limited; PackageDescription: LLP, Plastic, Quad, 5 x 5 x 0.75mm Body, 28 Lead, 0.5mm Pitch; RoHS: Y; PinCount: 28; DigiKeyPartNumber: LP3927ILQ-AZ-ND; Code_JEDEC: MO-220-WHHD-1; ComponentLink1Description: LP3927 Datasheet; ComponentLink1URL: http://www.national.com/ds/LP/LP3927.pdf; ComponentLink2Description: LP3927 Web Page; ComponentLink2URL: http://www.national.com/pf/LP/LP3927.html; ComponentLink3Description: LQA28A Package Page; ComponentLink3URL: http://www.national.com/packaging/folders/lqa28a.html
footprint LQA28A (PQFN, 28-Leads, Body 5x5mm, Pitch 0.5mm, NSC Recommended)
pins: 1 VO1 (out), 2 EN5 (in), 3 EN4 (in), 4 EN3 (in), 5 ~{RST} (oc), 6 ~{IRQ} (oc), 7 PS_HOLD (in), 8 KYBD (in), 9 D_GND (power), 10 ~{VEXT} (in), 11 BYP, 12 TEST_MODE (in), 13 LED_EN (in), 14 LED (oc), 15 LED_PGM (in), 16 OP_AMP OUT (out), 17 IN- (in), 18 IN+ (in), 19 OP_AMP_VDD (power), 20 A_GND2 (power), 21 VO5 (out), 22 VDD3 (power), 23 VO4 (out), 24 VDD2 (power), 25 VO3 (out), 26 A_GND1 (power), 27 VO2 (out), 28 VDD1 (power), 29 DAP (power)

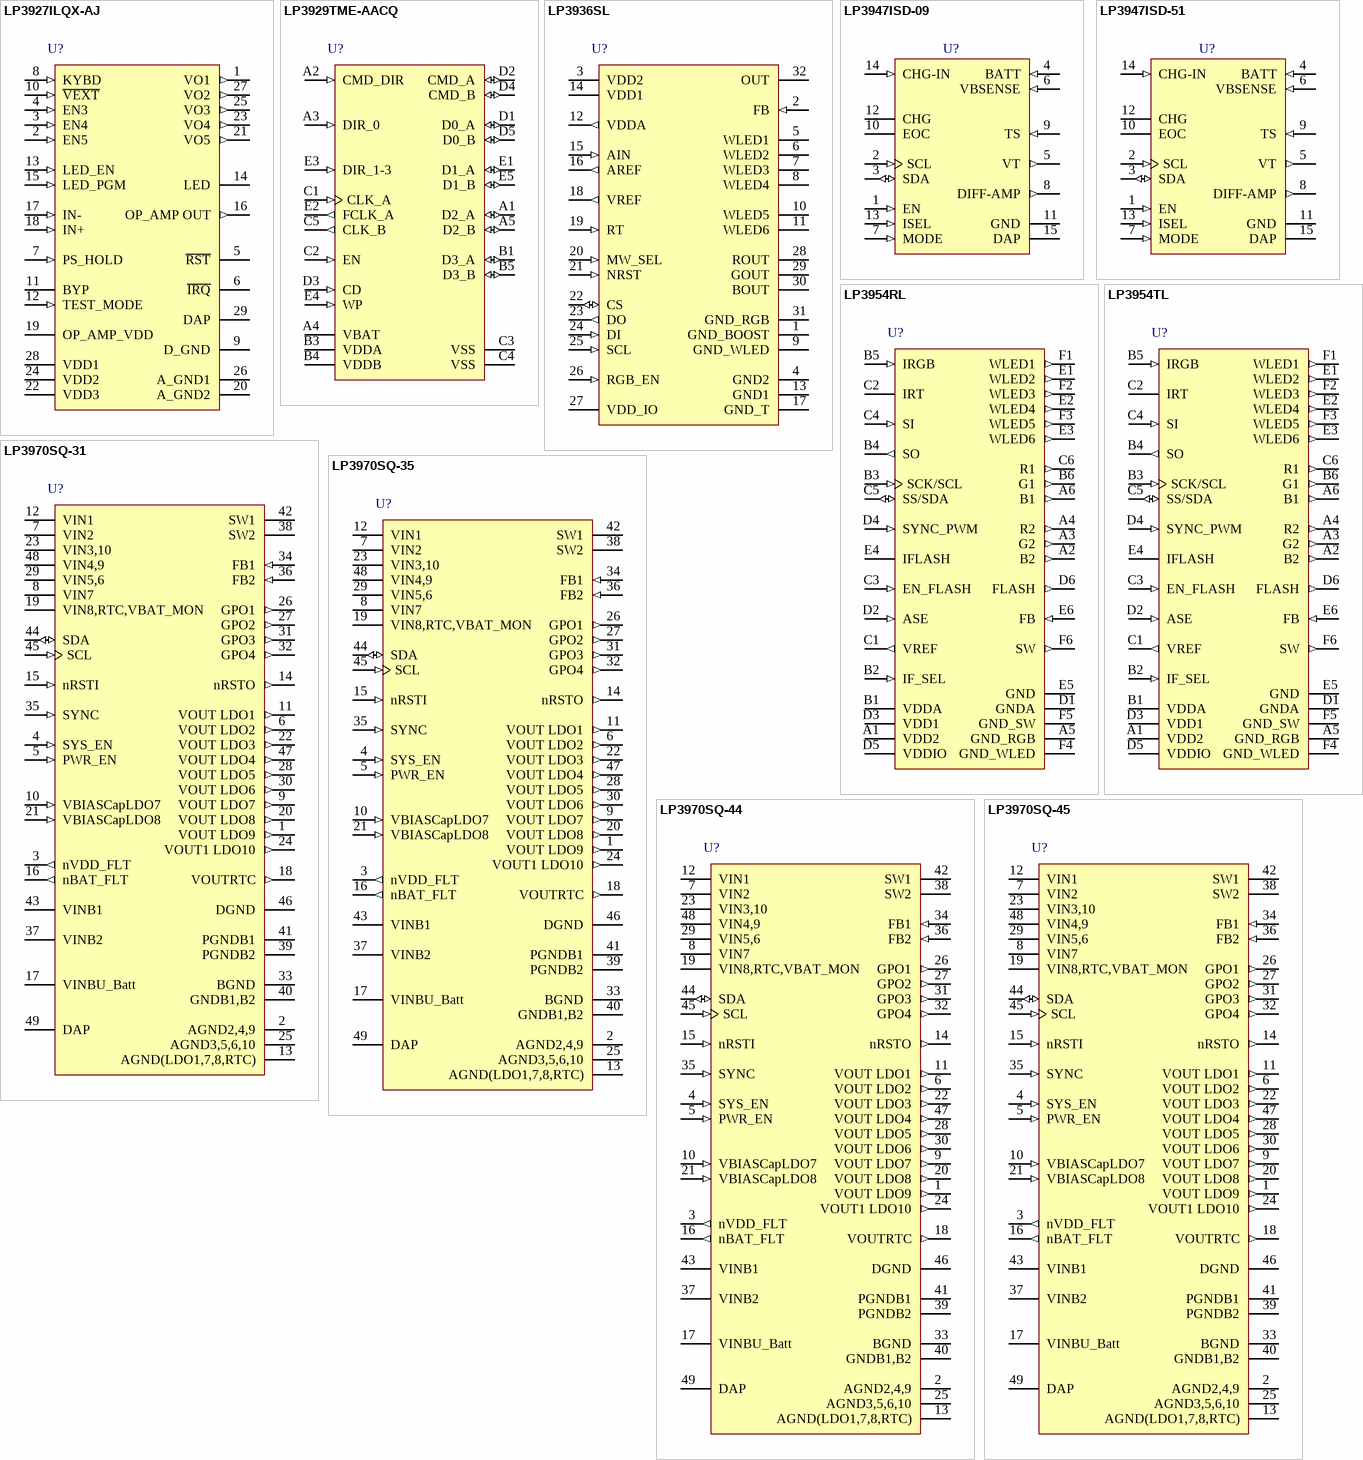
[diagram p21: symbols LP3927ILQX-AJ to LP3970SQ-45]

## LP3927ILQX-AJ
designator U?
Cellular/PCS System Power Management IC; PartNumber: LP3927ILQX-AJ; Manufacturer: National Semiconductor; CompType: MiscPower; PackageTopMarking: NS*UZXYTT*3927-AJ; PowerWise: N; Published: 4-Dec-2008; DatasheetVersion: Dec-2005; PackageVersion: revB, Jul-2001; PackageReference: LQA28A; Publisher: Altium Limited; PackageDescription: LLP, Plastic, Quad, 5 x 5 x 0.75mm Body, 28 Lead, 0.5mm Pitch; RoHS: N; PinCount: 28; DigiKeyPartNumber: LP3927ILQX-AJ-ND; Code_JEDEC: MO-220-WHHD-1; ComponentLink1Description: LP3927 Datasheet; ComponentLink1URL: http://www.national.com/ds/LP/LP3927.pdf; ComponentLink2Description: LP3927 Web Page; ComponentLink2URL: http://www.national.com/pf/LP/LP3927.html; ComponentLink3Description: LQA28A Package Page; ComponentLink3URL: http://www.national.com/packaging/folders/lqa28a.html
footprint LQA28A (PQFN, 28-Leads, Body 5x5mm, Pitch 0.5mm, NSC Recommended)
pins: 1 VO1 (out), 2 EN5 (in), 3 EN4 (in), 4 EN3 (in), 5 ~{RST} (oc), 6 ~{IRQ} (oc), 7 PS_HOLD (in), 8 KYBD (in), 9 D_GND (power), 10 ~{VEXT} (in), 11 BYP, 12 TEST_MODE (in), 13 LED_EN (in), 14 LED (oc), 15 LED_PGM (in), 16 OP_AMP OUT (out), 17 IN- (in), 18 IN+ (in), 19 OP_AMP_VDD (power), 20 A_GND2 (power), 21 VO5 (out), 22 VDD3 (power), 23 VO4 (out), 24 VDD2 (power), 25 VO3 (out), 26 A_GND1 (power), 27 VO2 (out), 28 VDD1 (power), 29 DAP (power)

## LP3929TME-AACQ
designator U?
High Speed Bi-Directional Level Shifter and Ultra Low-Dropout CMOS Voltage Regulator and Line Protection; PartNumber: LP3929TME-AACQ; Manufacturer: National Semiconductor; CompType: MiscPower; PackageTopMarking: XYTT*I D57B; PowerWise: N; Published: 4-Dec-2008; DatasheetVersion: Dec-2007; PackageVersion: revA, 2007; PackageReference: TME24AAA; Publisher: Altium Limited; PackageDescription: Thin Micro SMD, Depopulated, 24 Bump, 0.4mm Pitch; RoHS: Y; PinCount: 24; DigiKeyPartNumber: LP3929TME-AACQ-ND; ComponentLink1Description: LP3929 Datasheet; ComponentLink1URL: http://www.national.com/ds/LP/LP3929.pdf; ComponentLink2Description: LP3929 Web Page; ComponentLink2URL: http://www.national.com/pf/LP/LP3929.html; ComponentLink3Description: TME24AAA Package Page; ComponentLink3URL: http://www.national.com/packaging/folders/tme24aaa.html
footprint TME24AAA (Micro SMD, 24-Leads, Body 2.02x2.02mm, Pitch 0.4mm, NSC Recommended)
pins: A1 D2_A (io), A2 CMD_DIR (in), A3 DIR_0 (in), A4 VBAT (power), A5 D2_B (io), B1 D3_A (io), B3 VDDA (power), B4 VDDB (power), B5 D3_B (io), C1 CLK_A (in), C2 EN (in), C3 VSS (power), C4 VSS (power), C5 CLK_B (out), D1 D0_A (io), D2 CMD_A (io), D3 CD (in), D4 CMD_B (io), D5 D0_B (io), E1 D1_A (io), E2 FCLK_A (out), E3 DIR_1-3 (in), E4 WP (in), E5 D1_B (io)

## LP3936SL
designator U?
Lighting Management System for Six White LEDs and One RGB or FLASH LED; PartNumber: LP3936SL; Manufacturer: National Semiconductor; CompType: MiscPower; PackageTopMarking: NSUZXYTT*LP3936SL; PowerWise: Y; Published: 29-May-2009; DatasheetVersion: Jun-2005; PackageVersion: revA, Aug-2001; PackageReference: SLD32A; Publisher: Altium Limited; PackageDescription: Thin CSP, Plastic, Laminated, 4.5 x 5.5 x 0.8mm Body, 32 Lead, 0.5mm Pitch; RoHS: O; PinCount: 32; DigiKeyPartNumber: LP3936SLCT-ND; Code_JEDEC: MO-208-GEEA; ComponentLink1Description: LP3936 Datasheet; ComponentLink1URL: http://www.national.com/ds/LP/LP3936.pdf; ComponentLink2Description: LP3936 Web Page; ComponentLink2URL: http://www.national.com/mpf/LP/LP3936.html; ComponentLink3Description: SLD32A Package Page; ComponentLink3URL: http://www.national.com/packaging/folders/sld32a.html
footprint SLD32A (PQFN, 32-Leads (9x7 pads), Body 4.5x5.5mm, Pitch 0.5mm, NSC Recommended)
pins: 1 GND_BOOST (power), 2 FB (in), 3 VDD2 (power), 4 GND2 (power), 5 WLED1 (oc), 6 WLED2 (oc), 7 WLED3 (oc), 8 WLED4 (oc), 9 GND_WLED (power), 10 WLED5 (oc), 11 WLED6 (oc), 12 VDDA (out), 13 GND1 (power), 14 VDD1 (power), 15 AIN (in), 16 AREF (out), 17 GND_T (power), 18 VREF (out), 19 RT (in), 20 MW_SEL (in), 21 NRST (in), 22 CS (io), 23 DO (out), 24 DI (in), 25 SCL (in), 26 RGB_EN (in), 27 VDD_IO (power), 28 ROUT (oc), 29 GOUT (oc), 30 BOUT (oc), 31 GND_RGB (power), 32 OUT (oc)